# EAGLE library part BT-NVC-MDCS42A (library Airbeam)
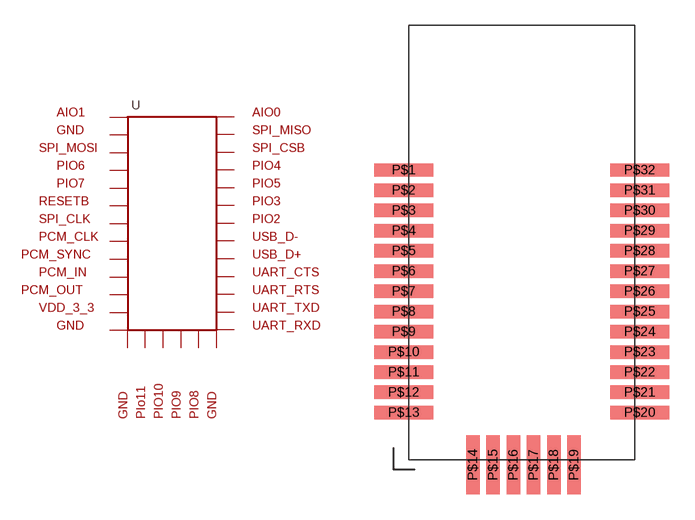
[diagram p0: symbol with the pads of BT_NVC-MDCS42A; footprint BT_NVC-MDCS42A]

Designator prefix -

## BT-NVC-MDCS42A (PARTNO: NVC-MDCS42A)  [BT_NVC-MDCS42A]
P$1  P$1
P$2  P$2
P$3  P$3
P$4  P$4
P$5  P$5
P$6  P$6
P$7  P$7
P$8  P$8
P$9  P$9
P$10  P$10
P$11  P$11
P$12  P$12
P$13  P$13
P$14  P$14
P$15  P$15
P$16  P$16
P$17  P$17
P$18  P$18
P$19  P$19
P$20  P$20
P$21  P$21
P$22  P$22
P$23  P$23
P$24  P$24
P$25  P$25
P$26  P$26
P$27  P$27
P$28  P$28
P$29  P$29
P$30  P$30
P$31  P$31
P$32  P$32

## Footprint BT_NVC-MDCS42A (pad centres in mm)
smd 3.5 x 0.8: P$1 -7,0; P$2 -7,-1.2; P$3 -7,-2.4; P$4 -7,-3.6; P$5 -7,-4.8; P$6 -7,-6; P$7 -7,-7.2; P$8 -7,-8.4; P$9 -7,-9.6; P$10 -7,-10.8; P$11 -7,-12; P$12 -7,-13.2; P$13 -7,-14.4; P$20 7,-14.4; P$21 7,-13.2; P$22 7,-12; P$23 7,-10.8; P$24 7,-9.6; P$25 7,-8.4; P$26 7,-7.2; P$27 7,-6; P$28 7,-4.8; P$29 7,-3.6; P$30 7,-2.4; P$31 7,-1.2; P$32 7,0
smd 0.8 x 3.5: P$14 -2.9,-17.5; P$15 -1.7,-17.5; P$16 -0.5,-17.5; P$17 0.7,-17.5; P$18 1.9,-17.5; P$19 3.1,-17.5